# Altium schematic symbol library BatteryControl.SchLib: 1 symbol
Pins are listed as number, name and electrical type; pins without a type are passive.

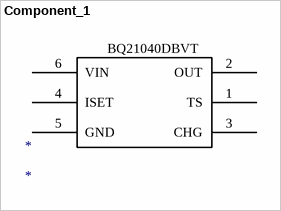
[diagram p0: symbol Component_1]

## Component_1
designator *
footprint BQ21040DBVT (Footprint not found)
pins: 1 TS, 2 OUT, 3 CHG, 4 ISET, 5 GND, 6 VIN
text: BQ21040DBVT